# Altium footprint library KMS221GLFS.PcbLib: 1 footprints
Each footprint in its own frame and in the unit in brackets; x right, y up, seen from the top. Pads: shape width x height; smd on the part's side, far side on the other; paste and mask are expansions set on the pad; w line width, h text height; cw(c..) or ccw(c..) is an arc to the next point about the centre after c.
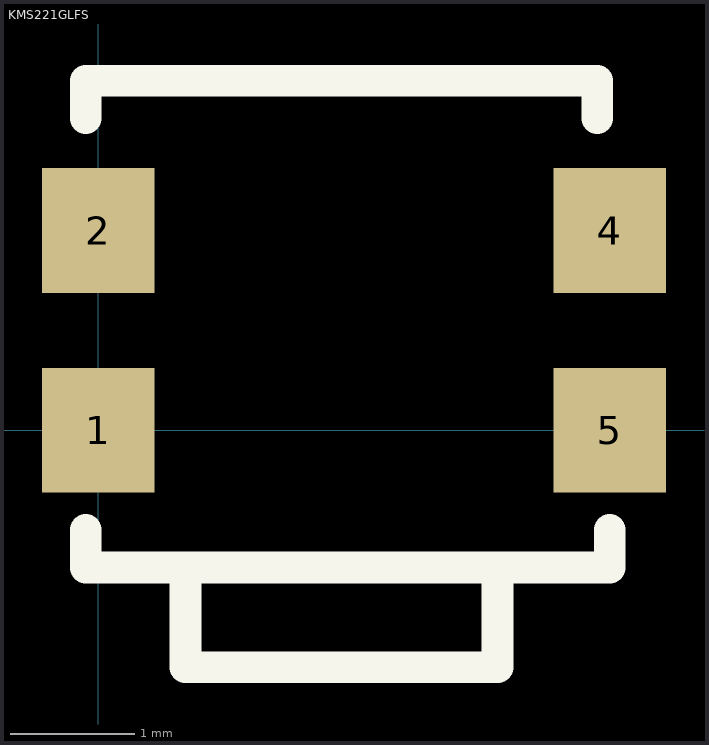
[diagram p0: the footprint, top view; thin cyan lines are the x and y axes]

## KMS221GLFS [mm]
pads (4):
  rect 0.9x1 smd: 1(0,0) 2(0,1.6) 4(4.1,1.6) 5(4.1,0)
Top Overlay:
  lines w0.254: -0.1,-0.8 -0.1,-1.1 4.1,-1.1 4.1,-0.8 ; -0.1,2.5 -0.1,2.8 4,2.8 4,2.5 ; 0.8,-1.1 0.7,-1.1 0.7,-1.9 3.2,-1.9 3.2,-1.2